# Altium footprint library sar20-baseboard.PcbLib: 23 footprints (part 1 of 2)
Each footprint in its own frame and in the unit in brackets; x right, y up, seen from the top. Pads: shape width x height; smd on the part's side, far side on the other; paste and mask are expansions set on the pad; w line width, h text height; cw(c..) or ccw(c..) is an arc to the next point about the centre after c.
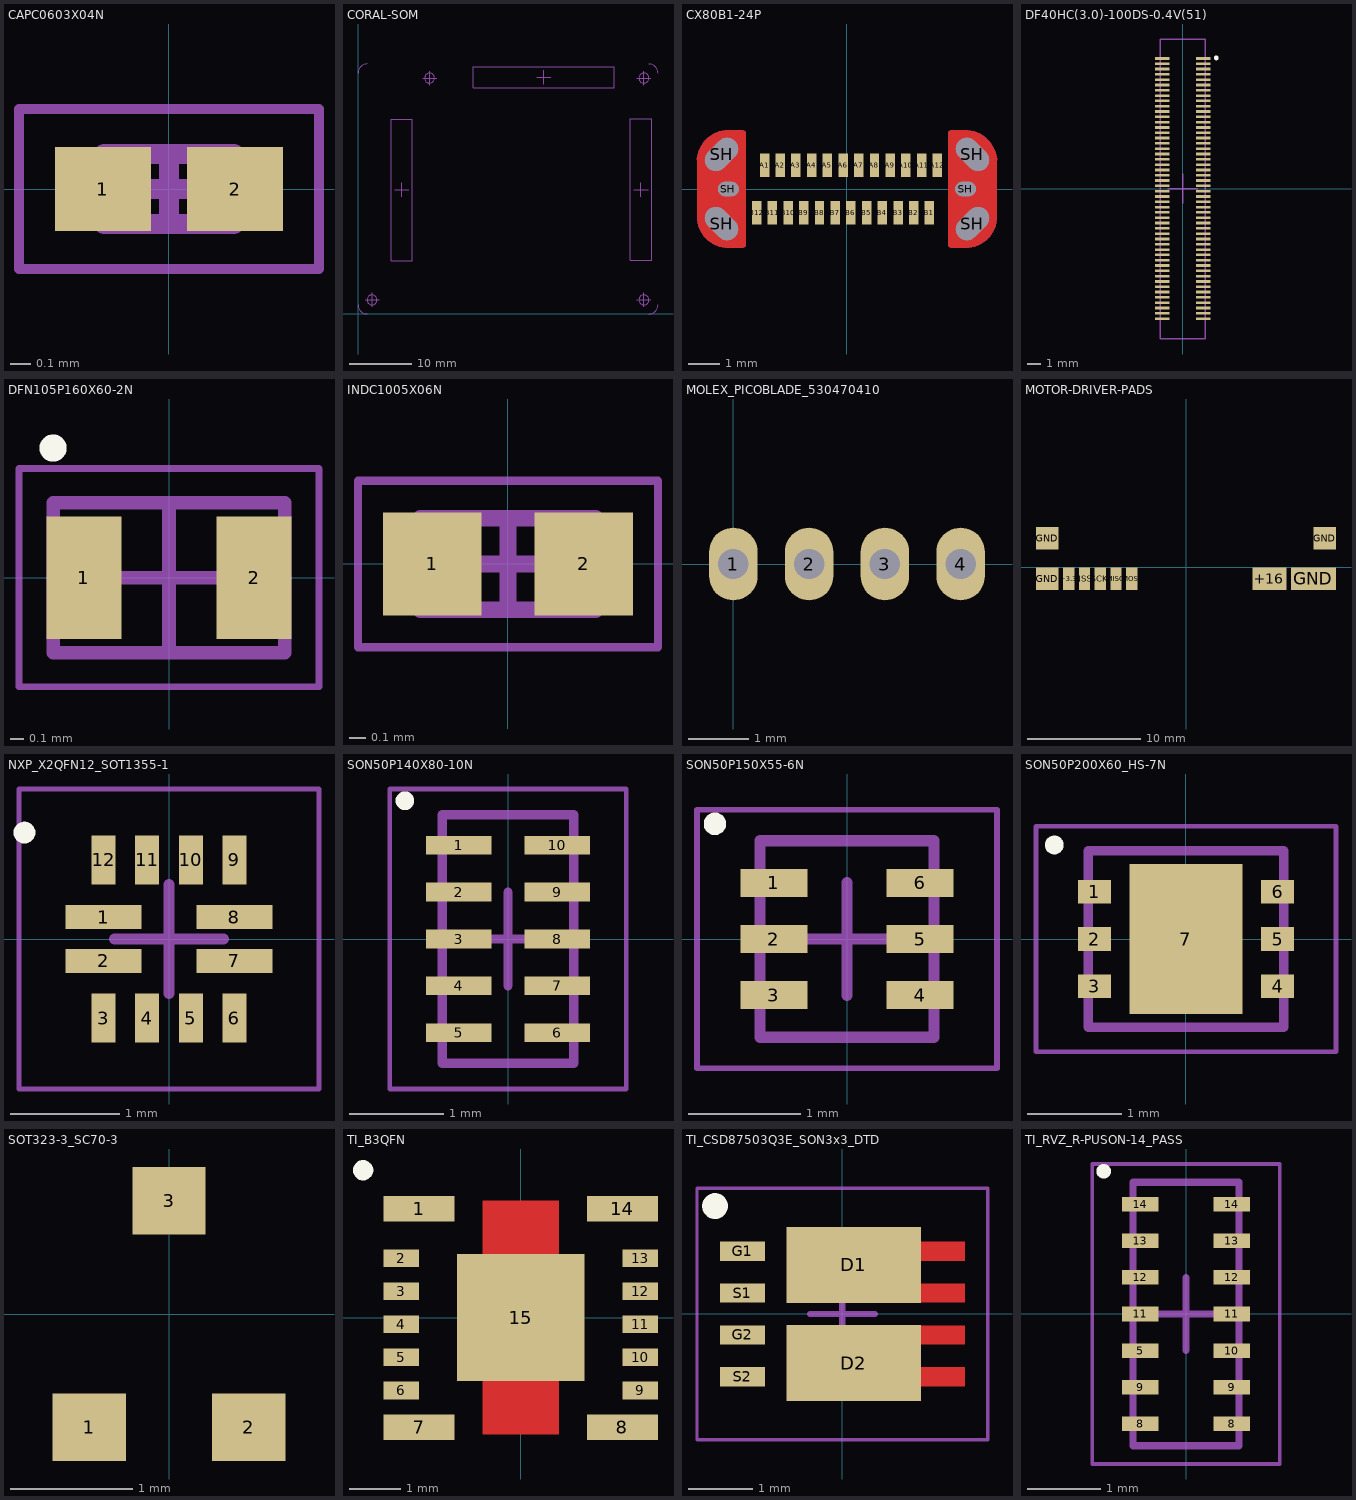
[diagram p0: the footprints below, top view; thin cyan lines are the x and y axes]

## CAPC0603X04N [mm] "Chip Capacitor, 2-Leads, Body 0,60x0,30mm, IPC Medium Density"
height 0.35
pads (2):
  rect 0.48x0.42 smd: 1(-0.33,0) 2(0.33,0)
Top 3D Body:
  lines w0.1: -0.325,-0.175 0.325,-0.175 0.325,0.175 -0.325,0.175 -0.325,-0.175
Mechanical 15:
  lines w0.05: -0.75,-0.4 0.75,-0.4 0.75,0.4 -0.75,0.4 -0.75,-0.4
  lines w0.1: -0.175,0 0.175,0 ; 0,-0.175 0,0.175
3D body "CAPC0603X04N.step": height 0.35, standoff 0, extent -0.325,-0.175 0.325,0.175

## CORAL-SOM [mm]
Mechanical 3:
  circle w0.1: c45.75,37.75 r0.8
  circle w0.1: c11.45,37.75 r0.8
  circle w0.1: c2.25,2.25 r0.8
  circle w0.1: c45.75,2.25 r0.8
  lines w0.1: 0,1.5 ccw(c1.5,1.5) 1.5,0 ; 0,38.5 cw(c1.5,38.5) 1.5,40 ; 1.125,2.25 2.25,2.25 ; 2.25,1.125 2.25,2.25 ; 2.25,3.375 2.25,2.25 ; 3.375,2.25 2.25,2.25 ; 5.845,19.89 6.97,19.89 ; 6.97,18.765 6.97,19.89 ; 6.97,21.015 6.97,19.89 ; 8.095,19.89 6.97,19.89 ; 10.325,37.75 11.45,37.75 ; 11.45,36.625 11.45,37.75 ; 11.45,38.875 11.45,37.75 ; 12.575,37.75 11.45,37.75 ; 28.625,37.86 29.75,37.86 ; 29.75,36.735 29.75,37.86 ; 29.75,38.985 29.75,37.86 ; 30.875,37.86 29.75,37.86 ; 44.155,19.89 45.28,19.89 ; 44.625,2.25 45.75,2.25 ; 44.625,37.75 45.75,37.75 ; 45.28,18.765 45.28,19.89 ; 45.28,21.015 45.28,19.89 ; 45.75,1.125 45.75,2.25 ; 45.75,3.375 45.75,2.25 ; 45.75,36.625 45.75,37.75 ; 45.75,38.875 45.75,37.75 ; 46.405,19.89 45.28,19.89 ; 46.5,0 ccw(c46.5,1.5) 48,1.5 ; 46.5,40 cw(c46.5,38.5) 48,38.5 ; 46.875,2.25 45.75,2.25 ; 46.875,37.75 45.75,37.75 ; 5.28,8.554 5.28,31.154 8.66,31.154 8.66,8.554 5.28,8.554 ; 18.414,36.17 41.014,36.17 41.014,39.55 18.414,39.55 18.414,36.17 ; 43.59,8.624 43.59,31.224 46.97,31.224 46.97,8.624 43.59,8.624
3D body "Coral-SoM.STEP": height 7.26, standoff 1.91, extent 0,0 48,40

## CX80B1-24P [mm]
pads (30):
  rect 0.3x0.75 smd: A1(-2.625,0.755) A2(-2.125,0.755) A3(-1.625,0.755) A4(-1.125,0.755) A5(-0.625,0.755) A6(-0.125,0.755) A7(0.375,0.755) A8(0.875,0.755) A9(1.375,0.755) A10(1.875,0.755) A11(2.375,0.755) A12(2.875,0.755) B1(2.625,-0.755) B2(2.125,-0.755) B3(1.625,-0.755) B4(1.125,-0.755) B5(0.625,-0.755) B6(0.125,-0.755) B7(-0.375,-0.755) B8(-0.875,-0.755) B9(-1.375,-0.755) B10(-1.875,-0.755) B11(-2.375,-0.755) B12(-2.875,-0.755)
  oval 1.2x0.7 hole 0.7 slot 1.2 at 135 deg rot 135 paste+0 mask+0: SH(-3.995,-1.1) SH(3.995,1.1)
  oval 1.2x0.7 hole 0.7 slot 1.2 at 45 deg rot 45 paste+0 mask+0: SH(-3.995,1.1) SH(3.995,-1.1)
  oval 0.65x0.45 hole 0.45 slot 0.65 at 0 deg paste+0 mask+0: SH(-3.775,0) SH(3.775,0)
Top Layer:
  region: -3.225,-1.775 -3.225,1.775 -3.225,1.795 -3.24,1.832 -3.268,1.86 -3.305,1.875 -3.325,1.875 -3.775,1.875 -3.874,1.875 -4.067,1.837 -4.249,1.761 -4.413,1.652 -4.552,1.512 -4.661,1.349 -4.737,1.167 -4.775,0.973 -4.775,0.875 -4.775,-0.875 -4.775,-0.973 -4.737,-1.167 -4.661,-1.349 -4.552,-1.512 -4.412,-1.652 -4.249,-1.761 -4.067,-1.837 -3.873,-1.875 -3.775,-1.875 -3.325,-1.875 -3.305,-1.875 -3.268,-1.86 -3.24,-1.832 -3.225,-1.795
  region: 3.225,1.775 3.225,-1.775 3.225,-1.795 3.24,-1.832 3.268,-1.86 3.305,-1.875 3.325,-1.875 3.775,-1.875 3.874,-1.875 4.067,-1.837 4.249,-1.761 4.412,-1.652 4.552,-1.512 4.661,-1.349 4.737,-1.167 4.775,-0.974 4.775,-0.875 4.775,0.85 4.775,0.951 4.736,1.149 4.658,1.336 4.546,1.503 4.403,1.646 4.236,1.758 4.049,1.836 3.851,1.875 3.75,1.875 3.325,1.875 3.305,1.875 3.268,1.86 3.24,1.832 3.225,1.795
Bottom Layer:
  region: 3.225,-1.775 3.225,1.775 3.225,1.795 3.24,1.832 3.268,1.86 3.305,1.875 3.325,1.875 3.75,1.875 3.851,1.875 4.049,1.836 4.236,1.758 4.403,1.646 4.546,1.503 4.658,1.336 4.736,1.149 4.775,0.951 4.775,0.85 4.775,-0.875 4.775,-0.974 4.737,-1.167 4.661,-1.349 4.552,-1.512 4.412,-1.652 4.249,-1.761 4.067,-1.837 3.874,-1.875 3.775,-1.875 3.325,-1.875 3.305,-1.875 3.268,-1.86 3.24,-1.832 3.225,-1.795
  region: 3.225,-1.775 3.225,1.775 3.225,1.795 3.24,1.832 3.268,1.86 3.305,1.875 3.325,1.875 3.75,1.875 3.851,1.875 4.049,1.836 4.236,1.758 4.403,1.646 4.546,1.503 4.658,1.336 4.736,1.149 4.775,0.951 4.775,0.85 4.775,-0.875 4.775,-0.974 4.737,-1.167 4.661,-1.349 4.552,-1.512 4.412,-1.652 4.249,-1.761 4.067,-1.837 3.874,-1.875 3.775,-1.875 3.325,-1.875 3.305,-1.875 3.268,-1.86 3.24,-1.832 3.225,-1.795
  region: -3.225,1.775 -3.225,-1.775 -3.225,-1.795 -3.24,-1.832 -3.268,-1.86 -3.305,-1.875 -3.325,-1.875 -3.775,-1.875 -3.874,-1.875 -4.067,-1.837 -4.249,-1.761 -4.412,-1.652 -4.552,-1.512 -4.661,-1.349 -4.737,-1.167 -4.775,-0.974 -4.775,-0.875 -4.775,0.875 -4.775,0.974 -4.737,1.167 -4.661,1.349 -4.552,1.512 -4.412,1.652 -4.249,1.761 -4.067,1.837 -3.874,1.875 -3.775,1.875 -3.325,1.875 -3.305,1.875 -3.268,1.86 -3.24,1.832 -3.225,1.795
3D body "CX80B1-24P--3DModel-STEP-56544.STEP": height 6.51, standoff -0.89, extent -4.47,-1.57 4.47,1.57

## DF40HC(3.0)-100DS-0.4V(51) [mm]
height 1.1
pads (100):
  rect 1.1x0.2 smd: 1(1.54,9.8) 2(-1.54,9.8) 3(1.54,9.4) 4(-1.54,9.4) 5(1.54,9) 6(-1.54,9) 7(1.54,8.6) 8(-1.54,8.6) 9(1.54,8.2) 10(-1.54,8.2) 11(1.54,7.8) 12(-1.54,7.8) 13(1.54,7.4) 14(-1.54,7.4) 15(1.54,7) 16(-1.54,7) 17(1.54,6.6) 18(-1.54,6.6) 19(1.54,6.2) 20(-1.54,6.2) 21(1.54,5.8) 22(-1.54,5.8) 23(1.54,5.4) 24(-1.54,5.4) 25(1.54,5) 26(-1.54,5) 27(1.54,4.6) 28(-1.54,4.6) 29(1.54,4.2) 30(-1.54,4.2) 31(1.54,3.8) 32(-1.54,3.8) 33(1.54,3.4) 34(-1.54,3.4) 35(1.54,3) 36(-1.54,3) 37(1.54,2.6) 38(-1.54,2.6) 39(1.54,2.2) 40(-1.54,2.2) 41(1.54,1.8) 42(-1.54,1.8) 43(1.54,1.4) 44(-1.54,1.4) 45(1.54,1) 46(-1.54,1) 47(1.54,0.6) 48(-1.54,0.6) 49(1.54,0.2) 50(-1.54,0.2) 51(1.54,-0.2) 52(-1.54,-0.2) 53(1.54,-0.6) 54(-1.54,-0.6) 55(1.54,-1) 56(-1.54,-1) 57(1.54,-1.4) 58(-1.54,-1.4) 59(1.54,-1.8) 60(-1.54,-1.8) 61(1.54,-2.2) 62(-1.54,-2.2) 63(1.54,-2.6) 64(-1.54,-2.6) 65(1.54,-3) 66(-1.54,-3) 67(1.54,-3.4) 68(-1.54,-3.4) 69(1.54,-3.8) 70(-1.54,-3.8) 71(1.54,-4.2) 72(-1.54,-4.2) 73(1.54,-4.6) 74(-1.54,-4.6) 75(1.54,-5) 76(-1.54,-5) 77(1.54,-5.4) 78(-1.54,-5.4) 79(1.54,-5.8) 80(-1.54,-5.8) 81(1.54,-6.2) 82(-1.54,-6.2) 83(1.54,-6.6) 84(-1.54,-6.6) 85(1.54,-7) 86(-1.54,-7) 87(1.54,-7.4) 88(-1.54,-7.4) 89(1.54,-7.8) 90(-1.54,-7.8) 91(1.54,-8.2) 92(-1.54,-8.2) 93(1.54,-8.6) 94(-1.54,-8.6) 95(1.54,-9) 96(-1.54,-9) 97(1.54,-9.4) 98(-1.54,-9.4) 99(1.54,-9.8) 100(-1.54,-9.8)
Top Overlay:
  circle w0.254: c2.53,9.845 r0.056
Mechanical 3:
  lines w0.1: -1.125,0 0,0 ; 0,-1.125 0,0 ; 0,1.125 0,0 ; 1.125,0 0,0 ; -1.69,-11.336 -1.69,11.264 1.69,11.264 1.69,-11.336 -1.69,-11.336
3D body "DF40HC(3.0)-100DS-0.4V.stp": height 2.9, standoff 0, extent -1.69,-11.336 1.69,11.264

## DFN105P160X60-2N [mm] "DFN, 2-Leads, Body 1,00x1,60mm, Pitch 1,05mm, IPC Medium Density"
height 0.6
pads (2):
  rect 0.55x0.9 smd: 1(-0.625,0) 2(0.625,0)
Top Overlay:
  circle w0.1: c-0.85,0.95 r0.05
Top 3D Body:
  lines w0.1: -0.85,-0.55 0.85,-0.55 0.85,0.55 -0.85,0.55 -0.85,-0.55
Mechanical 15:
  lines w0.05: -1.1,-0.8 1.1,-0.8 1.1,0.8 -1.1,0.8 -1.1,-0.8
  lines w0.1: -0.5,0 0.5,0 ; 0,-0.5 0,0.5
3D body "DFN105P160X60-2N.step": height 0.6, standoff 0, extent -0.85,-0.55 0.85,0.55

## INDC1005X06N [mm] "Chip Inductor, 2-Leads, Body 1,00x0,50mm, IPC Medium Density"
height 0.55
pads (2):
  rect 0.59x0.62 smd: 1(-0.455,0) 2(0.455,0)
Top 3D Body:
  lines w0.1: -0.525,-0.275 0.525,-0.275 0.525,0.275 -0.525,0.275 -0.525,-0.275
Mechanical 15:
  lines w0.05: -0.9,-0.5 0.9,-0.5 0.9,0.5 -0.9,0.5 -0.9,-0.5
  lines w0.1: -0.275,0 0.275,0 ; 0,-0.275 0,0.275
3D body "INDC1005X06N.step": height 0.55, standoff 0, extent -0.525,-0.275 0.525,0.275

## MOLEX_PICOBLADE_530470410 [mm]
pads (4):
  oval 0.8x1.2 hole 0.5 unplated: 1(0,0) 2(1.25,0) 3(2.5,0) 4(3.75,0)
3D body "530470410.stp": height 4.21, standoff -2.29, extent -1.5,-1.15 5.25,2.05

## MOTOR-DRIVER-PADS [mm]
pads (10):
  rect 1x2 smd: +3.3(-10.4,-1) MISO(-6.2,-1) MOSI(-4.8,-1) NSS(-9,-1) SCK(-7.6,-1)
  rect 3x2 smd: +16(7.4,-1)
  rect 2x2 smd: GND(-12.3,-1) GND(-12.3,2.6) GND(12.3,2.6)
  rect 4x2 smd: GND(11.3,-1)

## NXP_X2QFN12_SOT1355-1 [mm] "QFN, 12-Leads, Body 1,60x1,60mm, Pitch 0,40mm, IPC Medium Density"
height 0.4
pads (12):
  rect 0.7x0.22 smd: 1(-0.6,0.2) 2(-0.6,-0.2) 7(0.6,-0.2) 8(0.6,0.2)
  rect 0.22x0.45 smd: 3(-0.6,-0.725) 4(-0.2,-0.725) 5(0.2,-0.725) 6(0.6,-0.725) 9(0.6,0.725) 10(0.2,0.725) 11(-0.2,0.725) 12(-0.6,0.725)
Top Overlay:
  circle w0.1: c-1.325,0.975 r0.05
Mechanical 15:
  lines w0.05: -1.375,-1.375 1.375,-1.375 1.375,1.375 -1.375,1.375 -1.375,-1.375
  lines w0.1: -0.5,0 0.5,0 ; 0,-0.5 0,0.5
3D body "NXP_X2QFN12_SOT1355-1.step": height 0.4, standoff 0, extent -0.826,-0.826 0.826,0.826

## SON50P140X80-10N [mm] "SON, 10-Leads, Body 2,60x1,35mm, Pitch 0,50mm, IPC Medium Density"
height 0.8
pads (10):
  rect 0.7x0.2 smd: 1(-0.525,1) 2(-0.525,0.5) 3(-0.525,0) 4(-0.525,-0.5) 5(-0.525,-1) 6(0.525,-1) 7(0.525,-0.5) 8(0.525,0) 9(0.525,0.5) 10(0.525,1)
Top Overlay:
  circle w0.1: c-1.1,1.475 r0.05
Top 3D Body:
  lines w0.1: -0.7,-1.325 0.7,-1.325 0.7,1.325 -0.7,1.325 -0.7,-1.325
Mechanical 15:
  lines w0.05: -1.26,-1.6 1.26,-1.6 1.26,1.6 -1.26,1.6 -1.26,-1.6
  lines w0.1: -0.5,0 0.5,0 ; 0,-0.5 0,0.5
3D body "SON50P140X80-10N.step": height 0.8, standoff 0, extent -0.7,-1.325 0.7,1.325

## SON50P150X55-6N [mm] "SON, 6-Leads, Body 1,70x1,50mm, Pitch 0,50mm, IPC Medium Density"
height 0.55
pads (6):
  rect 0.6x0.25 smd: 1(-0.65,0.5) 2(-0.65,0) 3(-0.65,-0.5) 4(0.65,-0.5) 5(0.65,0) 6(0.65,0.5)
Top Overlay:
  circle w0.1: c-1.175,1.025 r0.05
Top 3D Body:
  lines w0.1: -0.775,-0.875 0.775,-0.875 0.775,0.875 -0.775,0.875 -0.775,-0.875
Mechanical 15:
  lines w0.05: -1.335,-1.15 1.335,-1.15 1.335,1.15 -1.335,1.15 -1.335,-1.15
  lines w0.1: -0.5,0 0.5,0 ; 0,-0.5 0,0.5
3D body "SON50P150X55-6N.step": height 0.55, standoff 0, extent -0.775,-0.875 0.775,0.875

## SON50P200X60_HS-7N [mm] "SON, 6-Leads, Body 1,81x2,01mm, Pitch 0,50mm, Thermal Pad 0,00x0,00mm, IPC Medium Density"
height 0.61
pads (7):
  rect 0.35x0.25 smd: 1(-0.975,0.5) 2(-0.975,0) 3(-0.975,-0.5) 4(0.975,-0.5) 5(0.975,0) 6(0.975,0.5)
  rect 1.2x1.6 smd paste+0 mask+0.102: 7(0,0)
Top Overlay:
  circle w0.1: c-1.4,1 r0.05
Top 3D Body:
  lines w0.1: -1.04,-0.94 1.04,-0.94 1.04,0.94 -1.04,0.94 -1.04,-0.94
Mechanical 15:
  lines w0.05: -1.595,-1.2 1.595,-1.2 1.595,1.2 -1.595,1.2 -1.595,-1.2
  lines w0.1: -0.5,0 0.5,0 ; 0,-0.5 0,0.5
3D body "SON50P200X60_HS-7N.step": height 0.61, standoff 0, extent -1.041,-0.94 1.041,0.94

## SOT323-3_SC70-3 [mm]
pads (3):
  rect 0.6x0.55 smd: 1(-0.65,-0.925) 2(0.65,-0.925) 3(0,0.925)
3D body "sc70-3.step": height 1, standoff 0, extent -1.05,-1.15 1.05,1.15

## TI_B3QFN [mm]
pads (15):
  rect 1.4x0.5 smd paste+0 mask+0.102: 1(-2,2.145) 7(-2,-2.155) 8(2,-2.155) 14(2,2.145)
  rect 0.7x0.35 smd paste+0 mask+0.102: 2(-2.35,1.17) 3(-2.35,0.52) 4(-2.35,-0.13) 5(-2.35,-0.78) 9(2.35,-1.43) 10(2.35,-0.78) 11(2.35,-0.13) 12(2.35,0.52) 13(2.35,1.17)
  rect 0.7x0.35 smd: 6(-2.35,-1.43)
  rect 2.5x2.5 smd paste+0 mask+0.102: 15(0,0)
Top Layer:
  rectangle: -0.75,-2.3 0.75,2.3
Top Overlay:
  circle w0.2: c-3.1,2.9 r0.1
3D body: height 4.1, standoff 0, extent -2.55,-2.8 2.55,2.8
3D body: height 4.11, standoff 4.1, extent -2.097,1.801 -1.5,2.4

## TI_CSD87503Q3E_SON3x3_DTD [mm] "SON, 8-Leads, Body 3,30x3,30mm, Pitch 0,65mm, IPC Medium Density"
height 1
pads (6):
  rect 2.09x1.18 smd: D1(0.175,0.763) D2(0.175,-0.763)
  rect 0.7x0.3 smd: G1(-1.55,0.975) G2(-1.55,-0.325) S1(-1.55,0.325) S2(-1.55,-0.975)
Top Layer:
  rectangle: 1.2,0.825 1.9,1.125
  rectangle: 1.2,0.175 1.9,0.475
  rectangle: 1.2,-1.125 1.9,-0.825
  rectangle: 1.2,-0.475 1.9,-0.175
  region: 2.4,-0.25
Top Overlay:
  circle w0.2: c-1.975,1.675 r0.1
Mechanical 15:
  lines w0.05: -2.255,-1.95 2.255,-1.95 2.255,1.95 -2.255,1.95 -2.255,-1.95
  lines w0.1: -0.5,0 0.5,0 ; 0,-0.5 0,0.5
3D body "TI_CSD87503Q3E_SON3x3_DTD.step": height 1, standoff 0, extent -1.701,-1.7 1.701,1.7

## TI_RVZ_R-PUSON-14_PASS [mm] "SON, 14-Leads, Body 3,50x1,35mm, Pitch 0,50mm, IPC Medium Density"
height 0.55
pads (14):
  rect 0.5x0.2 smd: 5(-0.625,-0.5) 8(-0.625,-1.5) 8(0.625,-1.5) 9(-0.625,-1) 9(0.625,-1) 10(0.625,-0.5) 11(-0.625,0) 11(0.625,0) 12(-0.625,0.5) 12(0.625,0.5) 13(-0.625,1) 13(0.625,1) 14(-0.625,1.5) 14(0.625,1.5)
Top Overlay:
  circle w0.1: c-1.125,1.95 r0.05
Top 3D Body:
  lines w0.1: -0.725,-1.8 0.725,-1.8 0.725,1.8 -0.725,1.8 -0.725,-1.8
Mechanical 15:
  lines w0.05: -1.28,-2.05 1.28,-2.05 1.28,2.05 -1.28,2.05 -1.28,-2.05
  lines w0.1: -0.5,0 0.5,0 ; 0,-0.5 0,0.5
3D body "SON50P140X55-14N.step": height 0.55, standoff 0, extent -0.726,-1.8 0.726,1.8